# EAGLE library part ADXL335 (library mille-feuille)
Small, Low Power, 3-Axis ±3 g Accelerometer 3-axis sensing Small, low profile package 4 mm × 4 mm × 1.45 mm LFCSP Low power : 350 μA (typical) Single-supply operation: 1.8 V to 3.6 V 10,000 g shock survival Excellent temperature stability BW adjustment with a single capacitor per axis RoHS/WEEE lead-free compliant
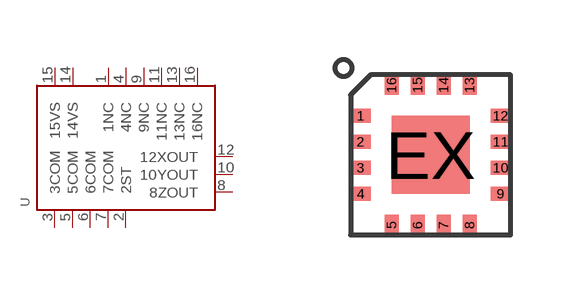
[diagram p24: symbol with the pads of LFCSP-16; footprint LFCSP-16]

Designator prefix U

## ADXL335  [LFCSP-16]
1  1NC  nc
2  2ST
3  3COM  pwr
4  4NC  nc
5  5COM  pwr
6  6COM  pwr
7  7COM  pwr
8  8ZOUT  pwr
9  9NC  nc
10  10YOUT  out
11  11NC  nc
12  12XOUT  out
13  13NC  nc
14  14VS  pwr
15  15VS  pwr
16  16NC  nc

## Footprint LFCSP-16 (pad centres in mm)
smd 0.5 x 0.35: 1 -1.75,0.975; 2 -1.75,0.325; 3 -1.75,-0.325; 4 -1.75,-0.975; 9 1.75,-0.975; 10 1.75,-0.325; 11 1.75,0.325; 12 1.75,0.975
smd 0.35 x 0.5: 5 -0.975,-1.75; 6 -0.325,-1.75; 7 0.325,-1.75; 8 0.975,-1.75; 13 0.975,1.75; 14 0.325,1.75; 15 -0.325,1.75; 16 -0.975,1.75
smd 1.95 x 1.95: EX 0,0